# Altium footprint library W5500.PcbLib: 3 footprints
Each footprint in its own frame and in the unit in brackets; x right, y up, seen from the top. Pads: shape width x height; smd on the part's side, far side on the other; paste and mask are expansions set on the pad; w line width, h text height; cw(c..) or ccw(c..) is an arc to the next point about the centre after c.
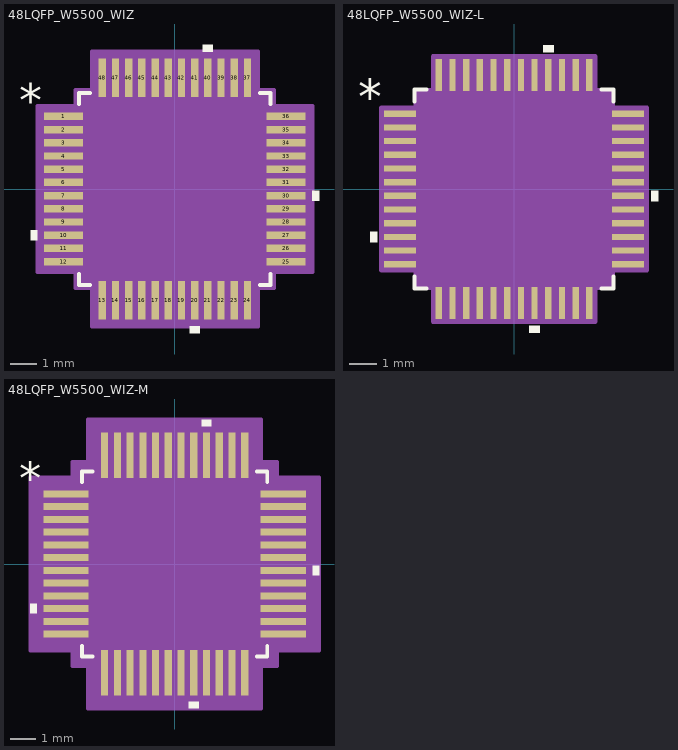
[diagram p0: the footprints below, top view; thin cyan lines are the x and y axes]

## 48LQFP_W5500_WIZ [mil]
pads (48):
  rect 58x11 smd paste+0 mask+0: 1(-166,108.27) 2(-166,88.58) 3(-166,68.9) 4(-166,49.21) 5(-166,29.53) 6(-166,9.84) 7(-166,-9.84) 8(-166,-29.53) 9(-166,-49.21) 10(-166,-68.9) 11(-166,-88.58) 12(-166,-108.27) 25(166,-108.27) 26(166,-88.58) 27(166,-68.9) 28(166,-49.21) 29(166,-29.53) 30(166,-9.84) 31(166,9.84) 32(166,29.53) 33(166,49.21) 34(166,68.9) 35(166,88.58) 36(166,108.27)
  rect 11x58 smd paste+0 mask+0: 13(-108.27,-166) 14(-88.58,-166) 15(-68.9,-166) 16(-49.21,-166) 17(-29.53,-166) 18(-9.84,-166) 19(9.84,-166) 20(29.53,-166) 21(49.21,-166) 22(68.9,-166) 23(88.58,-166) 24(108.27,-166) 37(108.27,166) 38(88.58,166) 39(68.9,166) 40(49.21,166) 41(29.53,166) 42(9.84,166) 43(-9.84,166) 44(-29.53,166) 45(-49.21,166) 46(-68.9,166) 47(-88.58,166) 48(-108.27,166)
Top Overlay:
  region: -205,-61.4 -215,-61.4 -215,-76.4 -205,-76.4
  region: 37.03,-205 22.03,-205 22.03,-215 37.03,-215
  region: 205,-2.34 215,-2.34 215,-17.34 205,-17.34
  region: 56.71,205 41.71,205 41.71,215 56.71,215
  lines w6: -143,-126.87 -143,-143 -126.87,-143 ; -143,126.87 -143,143 -126.87,143 ; 126.87,-143 143,-143 143,-126.87 ; 126.87,143 143,143 143,126.87
  text "*" at -232.5,108.11 h50
Mechanical 13:
  drawing of 201 lines, arcs and shapes, not listed
  text "*" at -135.5,93.11 h50
Mechanical 15:
  region: -123.77,-148 -148,-148 -148,-123.77 -205,-123.77 -205,123.77 -148,123.77 -148,148 -123.77,148 -123.77,205 123.77,205 123.77,148 148,148 148,123.77 205,123.77 205,-123.77 148,-123.77 148,-148 123.77,-148 123.77,-205 -123.77,-205
  lines w6: -205,-123.77 -148,-123.77 -148,-148 -123.77,-148 -123.77,-205 123.77,-205 123.77,-148 148,-148 148,-123.77 205,-123.77 205,123.77 148,123.77 148,148 123.77,148 123.77,205 -123.77,205 -123.77,148 -148,148 -148,123.77 -205,123.77 -205,-123.77
3D body "48LQFP_W5500_WIZ.step": height 63.11, standoff 0, extent -180.98,-180.98 180.98,180.98

## 48LQFP_W5500_WIZ-L [mil]
pads (48):
  rect 46x9 smd paste+0 mask+0: 1(-164,108.27) 2(-164,88.58) 3(-164,68.9) 4(-164,49.21) 5(-164,29.53) 6(-164,9.84) 7(-164,-9.84) 8(-164,-29.53) 9(-164,-49.21) 10(-164,-68.9) 11(-164,-88.58) 12(-164,-108.27) 25(164,-108.27) 26(164,-88.58) 27(164,-68.9) 28(164,-49.21) 29(164,-29.53) 30(164,-9.84) 31(164,9.84) 32(164,29.53) 33(164,49.21) 34(164,68.9) 35(164,88.58) 36(164,108.27)
  rect 9x46 smd paste+0 mask+0: 13(-108.27,-164) 14(-88.58,-164) 15(-68.9,-164) 16(-49.21,-164) 17(-29.53,-164) 18(-9.84,-164) 19(9.84,-164) 20(29.53,-164) 21(49.21,-164) 22(68.9,-164) 23(88.58,-164) 24(108.27,-164) 37(108.27,164) 38(88.58,164) 39(68.9,164) 40(49.21,164) 41(29.53,164) 42(9.84,164) 43(-9.84,164) 44(-29.53,164) 45(-49.21,164) 46(-68.9,164) 47(-88.58,164) 48(-108.27,164)
Top Overlay:
  region: -197,-61.4 -207,-61.4 -207,-76.4 -197,-76.4
  region: 37.03,-197 22.03,-197 22.03,-207 37.03,-207
  region: 197,-2.34 207,-2.34 207,-17.34 197,-17.34
  region: 56.71,197 41.71,197 41.71,207 56.71,207
  lines w6: -143,-125.87 -143,-143 -125.87,-143 ; -143,125.87 -143,143 -125.87,143 ; 125.87,-143 143,-143 143,-125.87 ; 125.87,143 143,143 143,125.87
  text "*" at -224.5,108.11 h50
Mechanical 13:
  drawing of 197 lines, arcs and shapes, not listed
  text "*" at -135.5,93.11 h50
Mechanical 15:
  region: -116.77,-142 -142,-142 -142,-116.77 -191,-116.77 -191,116.77 -142,116.77 -142,142 -116.77,142 -116.77,191 116.77,191 116.77,142 142,142 142,116.77 191,116.77 191,-116.77 142,-116.77 142,-142 116.77,-142 116.77,-191 -116.77,-191
  lines w6: -191,-116.77 -142,-116.77 -142,-142 -116.77,-142 -116.77,-191 116.77,-191 116.77,-142 142,-142 142,-116.77 191,-116.77 191,116.77 142,116.77 142,142 116.77,142 116.77,191 -116.77,191 -116.77,142 -142,142 -142,116.77 -191,116.77 -191,-116.77
3D body "48LQFP_W5500_WIZ.step": height 63.11, standoff 0, extent -180.98,-180.98 180.98,180.98

## 48LQFP_W5500_WIZ-M [mil]
pads (48):
  rect 70x11 smd paste+0 mask+0: 1(-168,108.27) 2(-168,88.58) 3(-168,68.9) 4(-168,49.21) 5(-168,29.53) 6(-168,9.84) 7(-168,-9.84) 8(-168,-29.53) 9(-168,-49.21) 10(-168,-68.9) 11(-168,-88.58) 12(-168,-108.27) 25(168,-108.27) 26(168,-88.58) 27(168,-68.9) 28(168,-49.21) 29(168,-29.53) 30(168,-9.84) 31(168,9.84) 32(168,29.53) 33(168,49.21) 34(168,68.9) 35(168,88.58) 36(168,108.27)
  rect 11x70 smd paste+0 mask+0: 13(-108.27,-168) 14(-88.58,-168) 15(-68.9,-168) 16(-49.21,-168) 17(-29.53,-168) 18(-9.84,-168) 19(9.84,-168) 20(29.53,-168) 21(49.21,-168) 22(68.9,-168) 23(88.58,-168) 24(108.27,-168) 37(108.27,168) 38(88.58,168) 39(68.9,168) 40(49.21,168) 41(29.53,168) 42(9.84,168) 43(-9.84,168) 44(-29.53,168) 45(-49.21,168) 46(-68.9,168) 47(-88.58,168) 48(-108.27,168)
Top Overlay:
  region: -213,-61.4 -223,-61.4 -223,-76.4 -213,-76.4
  region: 37.03,-213 22.03,-213 22.03,-223 37.03,-223
  region: 213,-2.34 223,-2.34 223,-17.34 213,-17.34
  region: 56.71,213 41.71,213 41.71,223 56.71,223
  lines w6: -143,-126.87 -143,-143 -126.87,-143 ; -143,126.87 -143,143 -126.87,143 ; 126.87,-143 143,-143 143,-126.87 ; 126.87,143 143,143 143,126.87
  text "*" at -240.5,108.11 h50
Mechanical 13:
  drawing of 197 lines, arcs and shapes, not listed
  text "*" at -135.5,93.11 h50
Mechanical 15:
  region: -133.77,-158 -158,-158 -158,-133.77 -223,-133.77 -223,133.77 -158,133.77 -158,158 -133.77,158 -133.77,223 133.77,223 133.77,158 158,158 158,133.77 223,133.77 223,-133.77 158,-133.77 158,-158 133.77,-158 133.77,-223 -133.77,-223
  lines w6: -223,-133.77 -158,-133.77 -158,-158 -133.77,-158 -133.77,-223 133.77,-223 133.77,-158 158,-158 158,-133.77 223,-133.77 223,133.77 158,133.77 158,158 133.77,158 133.77,223 -133.77,223 -133.77,158 -158,158 -158,133.77 -223,133.77 -223,-133.77
3D body "48LQFP_W5500_WIZ.step": height 63.11, standoff 0, extent -180.98,-180.98 180.98,180.98